# EAGLE library part BRD-RASPBERRYPI_BPLUS (library Proto-Pi)
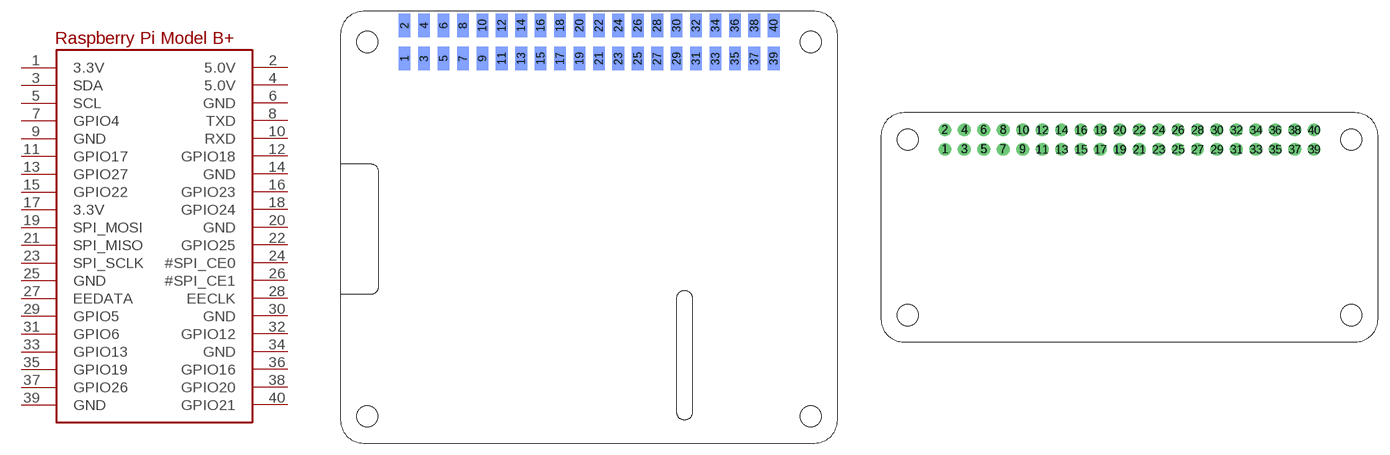
[diagram p1: symbol with the pads of PI_HAT_SMT_SLOTS; footprints PI_HAT_SMT_SLOTS, PI_BONNET_NODIM]

Designator prefix RPI

## BRD-RASPBERRYPI_BPLUS-SMT+SLOTS  [PI_HAT_SMT_SLOTS]
1  3.3V  sup
2  5.0V  sup
3  SDA
4  5.0V  sup
5  SCL
6  GND  sup
7  GPIO4
8  TXD
9  GND  pwr
10  RXD
11  GPIO17
12  GPIO18
13  GPIO27
14  GND  pwr
15  GPIO22
16  GPIO23
17  3.3V  sup
18  GPIO24
19  SPI_MOSI
20  GND  pwr
21  SPI_MISO
22  GPIO25
23  SPI_SCLK
24  #SPI_CE0
25  GND  pwr
26  #SPI_CE1
27  EEDATA
28  EECLK
29  GPIO5
30  GND  pwr
31  GPIO6
32  GPIO12
33  GPIO13
34  GND  pwr
35  GPIO19
36  GPIO16
37  GPIO26
38  GPIO20
39  GND  pwr
40  GPIO21

## BRD-RASPBERRYPI_BPLUS_BONNETNODIM  [PI_BONNET_NODIM]
Pads as for PI_HAT_SMT_SLOTS

## BRD-RASPBERRYPI_BPLUS_HATNODIM  [PI_HAT_NODIM]
Pads as for PI_HAT_SMT_SLOTS

## BRD-RASPBERRYPI_BPLUS_HATNOSLOTS  [PI_HAT_NOSLOTS]
Pads as for PI_HAT_SMT_SLOTS

## BRD-RASPBERRYPI_BPLUS_HATSLOTS  [PI_HAT_SLOTS]
Pads as for PI_HAT_SMT_SLOTS

## BRD-RASPBERRYPI_BPLUS_IDC  [2X20]
Pads as for PI_HAT_SMT_SLOTS

## BRD-RASPBERRYPI_BPLUS_PHAT  [PI_BONNET]
Pads as for PI_HAT_SMT_SLOTS

## BRD-RASPBERRYPI_BPLUS_SHIELD  [RASPBERRYPI_BPLUS_SHIELD]
Pads as for PI_HAT_SMT_SLOTS

## BRD-RASPBERRYPI_BPLUS_SHIELD_NODIM  [RASPBERRYPI_BPLUS_SHIELD_NODIM]
Pads as for PI_HAT_SMT_SLOTS

## BRD-RASPBERRYPI_BPLUS_SMT  [RASPBERRYPI_BPLUS_SHIELD_SMT]
Pads as for PI_HAT_SMT_SLOTS

## Footprint PI_HAT_SMT_SLOTS (pad centres in mm)
smd 1.524 x 3.048 bottom: 1 8.395,50.349; 2 8.395,54.667; 3 10.935,50.349; 4 10.935,54.667; 5 13.475,50.349; 6 13.475,54.667; 7 16.015,50.349; 8 16.015,54.667; 9 18.555,50.349; 10 18.555,54.667; 11 21.095,50.349; 12 21.095,54.667; 13 23.635,50.349; 14 23.635,54.667; 15 26.175,50.349; 16 26.175,54.667; 17 28.715,50.349; 18 28.715,54.667; 19 31.255,50.349; 20 31.255,54.667; 21 33.795,50.349; 22 33.795,54.667; 23 36.335,50.349; 24 36.335,54.667; 25 38.875,50.349; 26 38.875,54.667; 27 41.415,50.349; 28 41.415,54.667; 29 43.955,50.349; 30 43.955,54.667; 31 46.495,50.349; 32 46.495,54.667; 33 49.035,50.349; 34 49.035,54.667; 35 51.575,50.349; 36 51.575,54.667; 37 54.115,50.349; 38 54.115,54.667; 39 56.655,50.349; 40 56.655,54.667
hole 2.8 at 3.5,3.5
hole 2.8 at 3.5,52.5
hole 2.8 at 61.5,52.5
hole 2.8 at 61.5,3.5

## Footprint PI_BONNET_NODIM (pad centres in mm)
drill 0.9 pad 1.676: 1 8.37,25.23; 2 8.37,27.77; 3 10.91,25.23; 4 10.91,27.77; 5 13.45,25.23; 6 13.45,27.77; 7 15.99,25.23; 8 15.99,27.77; 9 18.53,25.23; 10 18.53,27.77; 11 21.07,25.23; 12 21.07,27.77; 13 23.61,25.23; 14 23.61,27.77; 15 26.15,25.23; 16 26.15,27.77; 17 28.69,25.23; 18 28.69,27.77; 19 31.23,25.23; 20 31.23,27.77; 21 33.77,25.23; 22 33.77,27.77; 23 36.31,25.23; 24 36.31,27.77; 25 38.85,25.23; 26 38.85,27.77; 27 41.39,25.23; 28 41.39,27.77; 29 43.93,25.23; 30 43.93,27.77; 31 46.47,25.23; 32 46.47,27.77; 33 49.01,25.23; 34 49.01,27.77; 35 51.55,25.23; 36 51.55,27.77; 37 54.09,25.23; 38 54.09,27.77; 39 56.63,25.23; 40 56.63,27.77
hole 2.8 at 3.5,3.5
hole 2.8 at 3.5,26.5
hole 2.8 at 61.5,26.5
hole 2.8 at 61.5,3.5

## Footprint PI_HAT_NODIM (pad centres in mm)
drill 0.9 pad 1.676: 1 8.37,51.23; 2 8.37,53.77; 3 10.91,51.23; 4 10.91,53.77; 5 13.45,51.23; 6 13.45,53.77; 7 15.99,51.23; 8 15.99,53.77; 9 18.53,51.23; 10 18.53,53.77; 11 21.07,51.23; 12 21.07,53.77; 13 23.61,51.23; 14 23.61,53.77; 15 26.15,51.23; 16 26.15,53.77; 17 28.69,51.23; 18 28.69,53.77; 19 31.23,51.23; 20 31.23,53.77; 21 33.77,51.23; 22 33.77,53.77; 23 36.31,51.23; 24 36.31,53.77; 25 38.85,51.23; 26 38.85,53.77; 27 41.39,51.23; 28 41.39,53.77; 29 43.93,51.23; 30 43.93,53.77; 31 46.47,51.23; 32 46.47,53.77; 33 49.01,51.23; 34 49.01,53.77; 35 51.55,51.23; 36 51.55,53.77; 37 54.09,51.23; 38 54.09,53.77; 39 56.63,51.23; 40 56.63,53.77
hole 2.8 at 3.5,3.5
hole 2.8 at 3.5,52.5
hole 2.8 at 61.5,52.5
hole 2.8 at 61.5,3.5

## Footprint PI_HAT_NOSLOTS (pad centres in mm)
drill 0.9 pad 1.676: 1 8.37,51.23; 2 8.37,53.77; 3 10.91,51.23; 4 10.91,53.77; 5 13.45,51.23; 6 13.45,53.77; 7 15.99,51.23; 8 15.99,53.77; 9 18.53,51.23; 10 18.53,53.77; 11 21.07,51.23; 12 21.07,53.77; 13 23.61,51.23; 14 23.61,53.77; 15 26.15,51.23; 16 26.15,53.77; 17 28.69,51.23; 18 28.69,53.77; 19 31.23,51.23; 20 31.23,53.77; 21 33.77,51.23; 22 33.77,53.77; 23 36.31,51.23; 24 36.31,53.77; 25 38.85,51.23; 26 38.85,53.77; 27 41.39,51.23; 28 41.39,53.77; 29 43.93,51.23; 30 43.93,53.77; 31 46.47,51.23; 32 46.47,53.77; 33 49.01,51.23; 34 49.01,53.77; 35 51.55,51.23; 36 51.55,53.77; 37 54.09,51.23; 38 54.09,53.77; 39 56.63,51.23; 40 56.63,53.77
hole 2.8 at 3.5,3.5
hole 2.8 at 3.5,52.5
hole 2.8 at 61.5,52.5
hole 2.8 at 61.5,3.5

## Footprint PI_HAT_SLOTS (pad centres in mm)
drill 0.9 pad 1.676: 1 8.37,51.23; 2 8.37,53.77; 3 10.91,51.23; 4 10.91,53.77; 5 13.45,51.23; 6 13.45,53.77; 7 15.99,51.23; 8 15.99,53.77; 9 18.53,51.23; 10 18.53,53.77; 11 21.07,51.23; 12 21.07,53.77; 13 23.61,51.23; 14 23.61,53.77; 15 26.15,51.23; 16 26.15,53.77; 17 28.69,51.23; 18 28.69,53.77; 19 31.23,51.23; 20 31.23,53.77; 21 33.77,51.23; 22 33.77,53.77; 23 36.31,51.23; 24 36.31,53.77; 25 38.85,51.23; 26 38.85,53.77; 27 41.39,51.23; 28 41.39,53.77; 29 43.93,51.23; 30 43.93,53.77; 31 46.47,51.23; 32 46.47,53.77; 33 49.01,51.23; 34 49.01,53.77; 35 51.55,51.23; 36 51.55,53.77; 37 54.09,51.23; 38 54.09,53.77; 39 56.63,51.23; 40 56.63,53.77
hole 2.8 at 3.5,3.5
hole 2.8 at 3.5,52.5
hole 2.8 at 61.5,52.5
hole 2.8 at 61.5,3.5

## Footprint 2X20 (pad centres in mm)
PIN HEADER
drill 1.016 octagon: 1 -24.13,-1.27; 2 -24.13,1.27; 3 -21.59,-1.27; 4 -21.59,1.27; 5 -19.05,-1.27; 6 -19.05,1.27; 7 -16.51,-1.27; 8 -16.51,1.27; 9 -13.97,-1.27; 10 -13.97,1.27; 11 -11.43,-1.27; 12 -11.43,1.27; 13 -8.89,-1.27; 14 -8.89,1.27; 15 -6.35,-1.27; 16 -6.35,1.27; 17 -3.81,-1.27; 18 -3.81,1.27; 19 -1.27,-1.27; 20 -1.27,1.27; 21 1.27,-1.27; 22 1.27,1.27; 23 3.81,-1.27; 24 3.81,1.27; 25 6.35,-1.27; 26 6.35,1.27; 27 8.89,-1.27; 28 8.89,1.27; 29 11.43,-1.27; 30 11.43,1.27; 31 13.97,-1.27; 32 13.97,1.27; 33 16.51,-1.27; 34 16.51,1.27; 35 19.05,-1.27; 36 19.05,1.27; 37 21.59,-1.27; 38 21.59,1.27; 39 24.13,-1.27; 40 24.13,1.27

## Footprint PI_BONNET (pad centres in mm)
drill 0.9 pad 1.676: 1 8.37,25.23; 2 8.37,27.77; 3 10.91,25.23; 4 10.91,27.77; 5 13.45,25.23; 6 13.45,27.77; 7 15.99,25.23; 8 15.99,27.77; 9 18.53,25.23; 10 18.53,27.77; 11 21.07,25.23; 12 21.07,27.77; 13 23.61,25.23; 14 23.61,27.77; 15 26.15,25.23; 16 26.15,27.77; 17 28.69,25.23; 18 28.69,27.77; 19 31.23,25.23; 20 31.23,27.77; 21 33.77,25.23; 22 33.77,27.77; 23 36.31,25.23; 24 36.31,27.77; 25 38.85,25.23; 26 38.85,27.77; 27 41.39,25.23; 28 41.39,27.77; 29 43.93,25.23; 30 43.93,27.77; 31 46.47,25.23; 32 46.47,27.77; 33 49.01,25.23; 34 49.01,27.77; 35 51.55,25.23; 36 51.55,27.77; 37 54.09,25.23; 38 54.09,27.77; 39 56.63,25.23; 40 56.63,27.77
hole 2.8 at 3.5,3.5
hole 2.8 at 3.5,26.5
hole 2.8 at 61.5,26.5
hole 2.8 at 61.5,3.5

## Footprint RASPBERRYPI_BPLUS_SHIELD (pad centres in mm)
drill 1 pad 1.676 square: 1 51.315,76.835
drill 1 pad 1.676: 2 53.855,76.835; 3 51.315,74.295; 4 53.855,74.295; 5 51.315,71.755; 6 53.855,71.755; 7 51.315,69.215; 8 53.855,69.215; 9 51.315,66.675; 10 53.855,66.675; 11 51.315,64.135; 12 53.855,64.135; 13 51.315,61.595; 14 53.855,61.595; 15 51.315,59.055; 16 53.855,59.055; 17 51.315,56.515; 18 53.855,56.515; 19 51.315,53.975; 20 53.855,53.975; 21 51.315,51.435; 22 53.855,51.435; 23 51.315,48.895; 24 53.855,48.895; 25 51.315,46.355; 26 53.855,46.355; 27 51.315,43.815; 28 53.855,43.815; 29 51.315,41.275; 30 53.855,41.275; 31 51.315,38.735; 32 53.855,38.735; 33 51.315,36.195; 34 53.855,36.195; 35 51.315,33.655; 36 53.855,33.655; 37 51.315,31.115; 38 53.855,31.115; 39 51.315,28.575; 40 53.855,28.575

## Footprint RASPBERRYPI_BPLUS_SHIELD_NODIM (pad centres in mm)
drill 1 pad 1.676 square: 1 51.315,76.835
drill 1 pad 1.676: 2 53.855,76.835; 3 51.315,74.295; 4 53.855,74.295; 5 51.315,71.755; 6 53.855,71.755; 7 51.315,69.215; 8 53.855,69.215; 9 51.315,66.675; 10 53.855,66.675; 11 51.315,64.135; 12 53.855,64.135; 13 51.315,61.595; 14 53.855,61.595; 15 51.315,59.055; 16 53.855,59.055; 17 51.315,56.515; 18 53.855,56.515; 19 51.315,53.975; 20 53.855,53.975; 21 51.315,51.435; 22 53.855,51.435; 23 51.315,48.895; 24 53.855,48.895; 25 51.315,46.355; 26 53.855,46.355; 27 51.315,43.815; 28 53.855,43.815; 29 51.315,41.275; 30 53.855,41.275; 31 51.315,38.735; 32 53.855,38.735; 33 51.315,36.195; 34 53.855,36.195; 35 51.315,33.655; 36 53.855,33.655; 37 51.315,31.115; 38 53.855,31.115; 39 51.315,28.575; 40 53.855,28.575

## Footprint RASPBERRYPI_BPLUS_SHIELD_SMT (pad centres in mm)
smd 3.048 x 1.524 bottom: 1 50.419,76.835; 2 54.737,76.835; 3 50.419,74.295; 4 54.737,74.295; 5 50.419,71.755; 6 54.737,71.755; 7 50.419,69.215; 8 54.737,69.215; 9 50.419,66.675; 10 54.737,66.675; 11 50.419,64.135; 12 54.737,64.135; 13 50.419,61.595; 14 54.737,61.595; 15 50.419,59.055; 16 54.737,59.055; 17 50.419,56.515; 18 54.737,56.515; 19 50.419,53.975; 20 54.737,53.975; 21 50.419,51.435; 22 54.737,51.435; 23 50.419,48.895; 24 54.737,48.895; 25 50.419,46.355; 26 54.737,46.355; 27 50.419,43.815; 28 54.737,43.815; 29 50.419,41.275; 30 54.737,41.275; 31 50.419,38.735; 32 54.737,38.735; 33 50.419,36.195; 34 54.737,36.195; 35 50.419,33.655; 36 54.737,33.655; 37 50.419,31.115; 38 54.737,31.115; 39 50.419,28.575; 40 54.737,28.575